# Altium footprint library Capacitors_rus.PCBLIB: 349 footprints (part 16 of 22)
Each footprint in its own frame and in the unit in brackets; x right, y up, seen from the top. Pads: shape width x height; smd on the part's side, far side on the other; paste and mask are expansions set on the pad; w line width, h text height; cw(c..) or ccw(c..) is an arc to the next point about the centre after c.
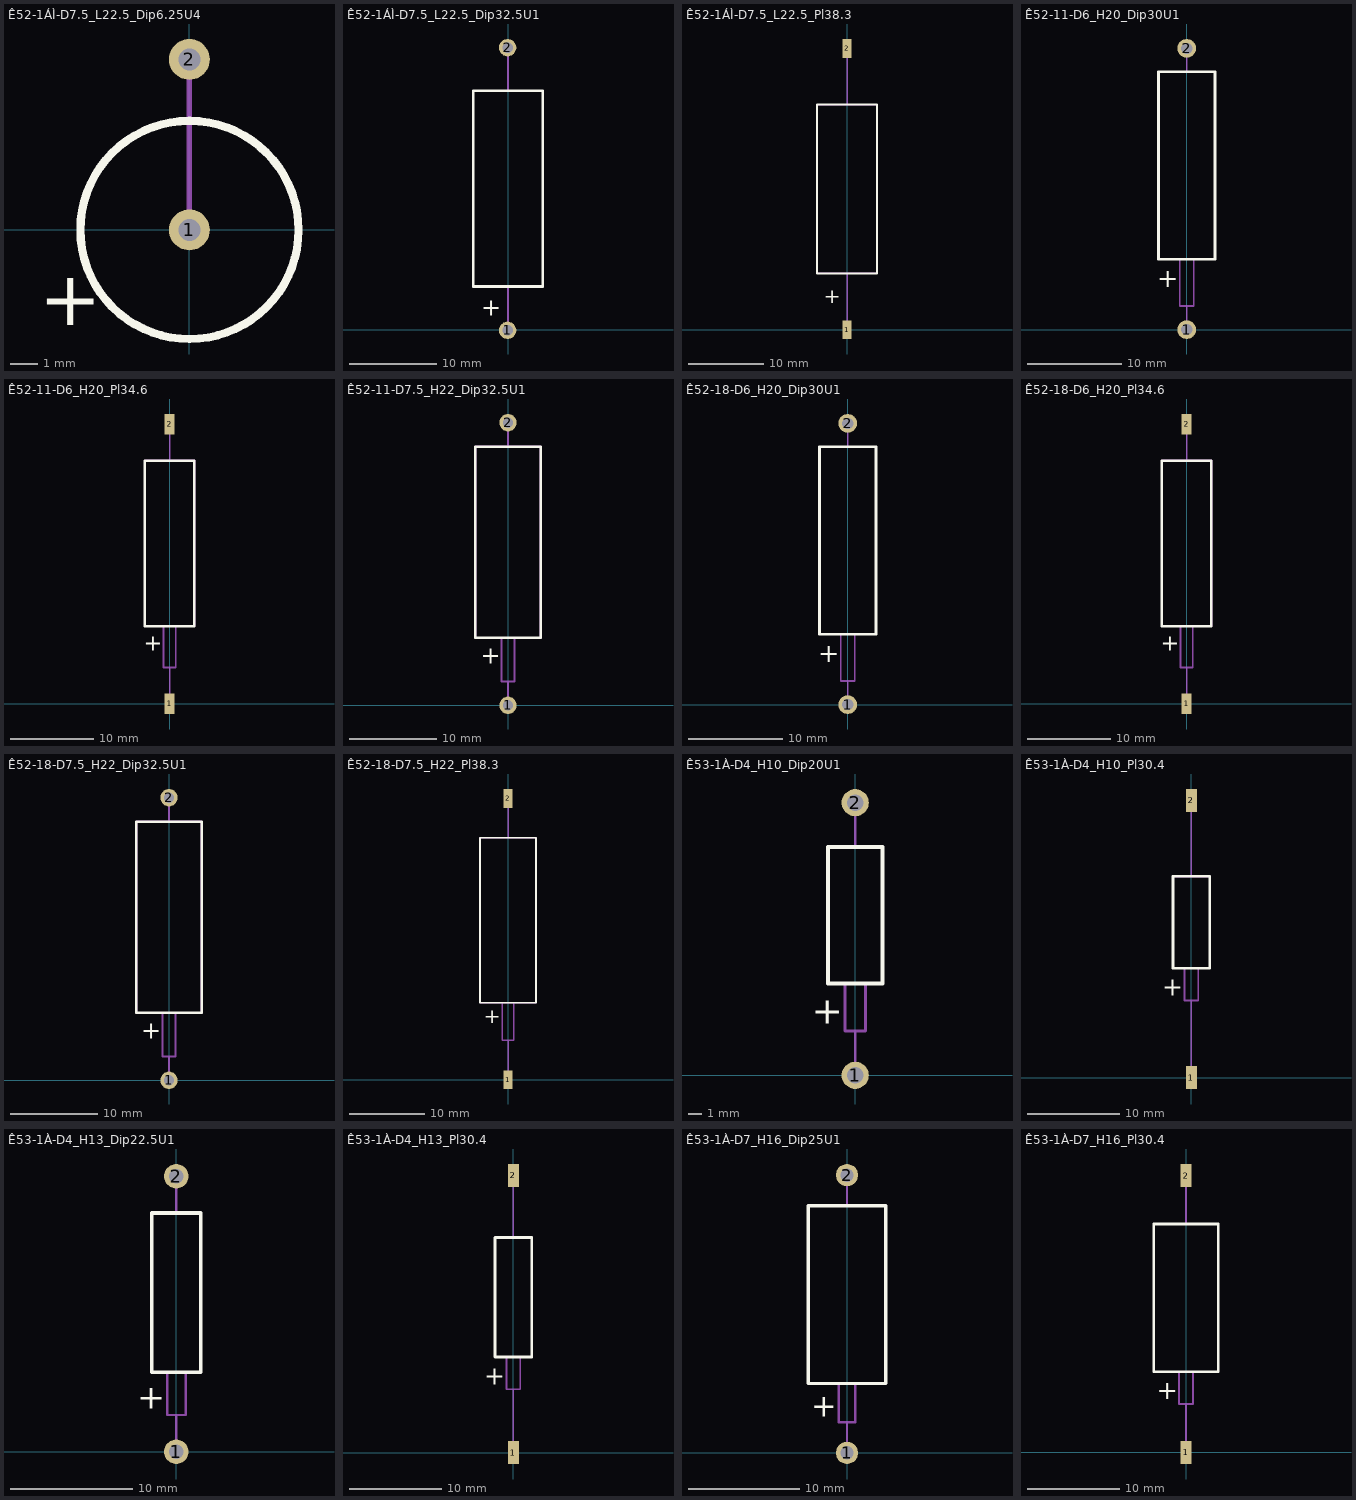
[diagram p15: the footprints below, top view; thin cyan lines are the x and y axes]

## Ê52-1ÁÌ-D7.5_L22.5_Dip6.25U4 [mm]
height 26
pads (2):
  round 1.5 hole 0.8: 1(0,0) 2(0,6.25)
Top Overlay:
  circle w0.3: c0,0 r4
  text "+" at -5.5,-3.5 h2
Mechanical 1:
  circle w0.2: c0,0 r4
  lines w0.2: 0,0 0,6.25
  text "+" at -0.25,-2.25 h1.5
  text ".Designator" at -4.75,-0.3 h1.5

## Ê52-1ÁÌ-D7.5_L22.5_Dip32.5U1 [mm]
height 8
pads (2):
  round 2 hole 1.2: 1(-0.04,-0.04) 2(-0.04,32.46)
Top Overlay:
  lines w0.3: -4,5 4,5 4,27.5 -4,27.5 -4,5
  text "+" at -3.08,1.645 h2
Mechanical 1:
  lines w0.2: -4,5 -4,27.5 4,27.5 4,5 -3.99,5 ; 0,0 0,5.03 ; 0,27.48 0,32.5
  text ".Designator" at 0.15,12.5 h1.5
  text "+" at -0.25,5.75 h1.5

## Ê52-1ÁÌ-D7.5_L22.5_Pl38.3 [mm]
height 8
pads (2):
  rect 1.2x2.5 smd: 1(0,0) 2(0,37.5)
Top Overlay:
  lines w0.3: -4,7.5 4,7.5 4,30 -4,30 -4,7.5
  text "+" at -3.08,3.52 h2
Mechanical 1:
  lines w0.2: -4,7.5 -4,30 4,30 4,7.5 -3.99,7.5 ; 0,-0.4 0,7.53 ; 0,29.98 0,37.9
  text "+" at -0.5,8.25 h1.5
  text ".Designator" at 0.15,15.65 h1.5

## Ê52-11-D6_H20_Dip30U1 [mm]
height 6
pads (2):
  round 2 hole 1.2: 1(0,0) 2(0,30)
Top Overlay:
  lines w0.3: -3,7.5 -3,27.5 3,27.5 3,7.5 -3,7.5
  text "+" at -3.156,4.5 h2
Mechanical 1:
  lines w0.2: -0.75,7.5 -0.75,2.5 0.75,2.5 0.75,7.5 ; 0,0 0,2.5 ; 0,27.5 0,30 ; -3,7.5 -3,27.5 3,27.5 3,7.5 -3,7.5
  text "+" at -0.25,8 h1.5
  text ".Designator" at 0.25,15.55 h1.5

## Ê52-11-D6_H20_Pl34.6 [mm]
height 6
pads (2):
  rect 1.2x2.5 smd: 1(0,0) 2(0,33.75)
Top Overlay:
  lines w0.3: -3,9.375 -3,29.375 3,29.375 3,9.375 -3,9.375
  text "+" at -3.156,6.375 h2
Mechanical 1:
  lines w0.2: -0.75,9.375 -0.75,4.375 0.75,4.375 0.75,9.375 ; 0,-0.425 0,4.375 ; 0,29.375 0,34.175 ; -3,9.375 -3,29.375 3,29.375 3,9.375 -3,9.375
  text "+" at -0.25,10.25 h1.5
  text ".Designator" at 0.3,17.5 h1.5

## Ê52-11-D7.5_H22_Dip32.5U1 [mm]
height 7.5
pads (2):
  round 2 hole 1.2: 1(0,0) 2(0,32.5)
Top Overlay:
  lines w0.3: -3.75,7.75 3.75,7.75 3.75,29.75 -3.75,29.75 -3.75,7.75
  text "+" at -3.156,4.75 h2
Mechanical 1:
  lines w0.2: -0.75,7.75 -0.75,2.75 0.75,2.75 0.75,7.75 ; 0,0 0,2.75 ; 0,29.75 0,32.5 ; -3.75,7.75 3.75,7.75 3.75,29.75 -3.75,29.75 -3.75,7.75
  text ".Designator" at 0.2,16.3 h1.5
  text "+" at -0.25,8.25 h1.5

## Ê52-18-D6_H20_Dip30U1 [mm]
height 6
pads (2):
  round 2 hole 1.2: 1(0,0) 2(0,30)
Top Overlay:
  lines w0.3: -3,7.5 -3,27.5 3,27.5 3,7.5 -3,7.5
  text "+" at -3.156,4.5 h2
Mechanical 1:
  lines w0.2: -0.75,7.5 -0.75,2.5 0.75,2.5 0.75,7.5 ; 0,0 0,2.5 ; 0,27.5 0,30 ; -3,7.5 -3,27.5 3,27.5 3,7.5 -3,7.5
  text "+" at -0.25,8 h1.5
  text ".Designator" at 0.25,15.55 h1.5

## Ê52-18-D6_H20_Pl34.6 [mm]
height 6
pads (2):
  rect 1.2x2.5 smd: 1(0,0) 2(0,33.75)
Top Overlay:
  lines w0.3: -3,9.375 3,9.375 3,29.375 -3,29.375 -3,9.375
  text "+" at -3.156,6.375 h2
Mechanical 1:
  lines w0.2: -0.75,9.375 -0.75,4.375 0.75,4.375 0.75,9.375 ; 0,-0.425 0,4.375 ; 0,29.375 0,34.175 ; -3,9.375 3,9.375 3,29.375 -3,29.375 -3,9.375
  text ".Designator" at 0.3,17.5 h1.5
  text "+" at -0.25,10.25 h1.5

## Ê52-18-D7.5_H22_Dip32.5U1 [mm]
height 7.5
pads (2):
  round 2 hole 1.2: 1(0,0) 2(0,32.5)
Top Overlay:
  lines w0.3: -3.75,7.75 3.75,7.75 3.75,29.75 -3.75,29.75 -3.75,7.75
  text "+" at -3.205,4.77 h2
Mechanical 1:
  lines w0.2: -0.75,7.75 -0.75,2.75 0.75,2.75 0.75,7.75 ; 0,0 0,2.75 ; 0,29.75 0,32.5 ; -3.75,7.75 3.75,7.75 3.75,29.75 -3.75,29.75 -3.75,7.75
  text ".Designator" at 0.3,16.85 h1.5
  text "+" at -0.25,8.25 h1.5
3D body: height 7.49, standoff -3, extent -3.75,-0.4 3.721,32.897

## Ê52-18-D7.5_H22_Pl38.3 [mm]
height 7.5
pads (2):
  rect 1.2x2.5 smd: 1(0,0) 2(0,37.5)
Top Overlay:
  lines w0.25: -3.75,10.25 3.75,10.25 3.75,32.25 -3.75,32.25 -3.75,10.25
  text "+" at -3.205,7.52 h2
Mechanical 1:
  lines w0.2: -0.75,10.25 -0.75,5.25 0.75,5.25 0.75,10.25 ; 0,-0.4 0,5.25 ; 0,32.25 0,37.9 ; -3.75,10.25 3.75,10.25 3.75,32.25 -3.75,32.25 -3.75,10.25
  text "+" at -0.25,11 h1.5
  text ".Designator" at 0.3,19.6 h1.5

## Ê53-1À-D4_H10_Dip20U1 [mm]
height 4.5
pads (2):
  round 2 hole 1.2: 1(0,0) 2(0,20)
Top Overlay:
  lines w0.3: -2,6.75 -2,16.75 2,16.75 2,6.75 -2,6.75
  text "+" at -3.205,3.77 h2
Mechanical 1:
  lines w0.2: -0.75,6.75 -0.75,3.25 0.75,3.25 0.75,6.75 ; 0,0 0,3.25 ; 0,16.75 0,20 ; -2,6.75 -2,16.75 2,16.75 2,6.75 -2,6.75
  text ".Designator" at 0.2,9.95 h1.5
  text "+" at -0.35,7.35 h1.5

## Ê53-1À-D4_H10_Pl30.4 [mm]
height 4.5
pads (2):
  rect 1.2x2.5 smd: 1(0,0) 2(0,30.125)
Top Overlay:
  lines w0.3: -2,11.875 2,11.875 2,21.875 -2,21.875 -2,11.875
  text "+" at -3.156,8.875 h2
Mechanical 1:
  lines w0.2: -0.75,11.875 -0.75,8.375 0.75,8.375 0.75,11.875 ; 0,-0.075 0,8.375 ; 0,21.875 0,30.325 ; -2,11.875 2,11.875 2,21.875 -2,21.875 -2,11.875
  text "+" at -0.35,12.5 h1.5
  text ".Designator" at 0.45,15 h1.5

## Ê53-1À-D4_H13_Dip22.5U1 [mm]
height 4.5
pads (2):
  round 2 hole 1.2: 1(0,0) 2(0,22.5)
Top Overlay:
  lines w0.3: -2,6.5 -2,19.5 2,19.5 2,6.5 -2,6.5
  text "+" at -3.205,3.52 h2
Mechanical 1:
  lines w0.2: -0.75,6.5 -0.75,3 0.75,3 0.75,6.5 ; 0,0 0,3 ; 0,19.5 0,22.5 ; -2,6.5 -2,19.5 2,19.5 2,6.5 -2,6.5
  text ".Designator" at 0.25,11.85 h1.5
  text "+" at -0.25,6.95 h1.5

## Ê53-1À-D4_H13_Pl30.4 [mm]
height 4.5
pads (2):
  rect 1.2x2.5 smd: 1(0,0) 2(0,30.125)
Top Overlay:
  lines w0.3: -2,10.375 -2,23.375 2,23.375 2,10.375 -2,10.375
  text "+" at -3.156,7.375 h2
Mechanical 1:
  lines w0.2: -0.75,10.375 -0.75,6.875 0.75,6.875 0.75,10.375 ; 0,-0.075 0,6.875 ; 0,23.375 0,30.325 ; -2,10.375 -2,23.375 2,23.375 2,10.375 -2,10.375
  text ".Designator" at 0.25,15.2 h1.5
  text "+" at -0.3,11.05 h1.5

## Ê53-1À-D7_H16_Dip25U1 [mm]
height 7.5
pads (2):
  round 2 hole 1.2: 1(0,0) 2(0,25)
Top Overlay:
  lines w0.3: -2,22.25 2,22.25 ; -3.5,6.25 -3.5,22.25 3.5,22.25 3.5,6.25 -3.5,6.25
  text "+" at -3.205,3.27 h2
Mechanical 1:
  lines w0.2: -2,22.25 2,22.25 ; -0.75,6.25 -0.75,2.75 0.75,2.75 0.75,6.25 ; 0,0 0,2.75 ; 0,22.25 0,25 ; -3.5,6.25 -3.5,22.25 3.5,22.25 3.5,6.25 -3.5,6.25
  text "+" at -0.3,6.85 h1.5
  text ".Designator" at 0.3,12.75 h1.5

## Ê53-1À-D7_H16_Pl30.4 [mm]
height 7.5
pads (2):
  rect 1.2x2.5 smd: 1(0,0) 2(0,30)
Top Overlay:
  lines w0.3: -3.5,8.75 -3.5,24.75 3.5,24.75 3.5,8.75 -3.5,8.75
  text "+" at -3.156,5.75 h2
Mechanical 1:
  lines w0.2: -0.75,8.75 -0.75,5.25 0.75,5.25 0.75,8.75 ; 0,-0.2 0,5.25 ; 0,24.75 0,30.2 ; -3.5,8.75 -3.5,24.75 3.5,24.75 3.5,8.75 -3.5,8.75
  text ".Designator" at 0.3,15.7 h1.5
  text "+" at -0.5,9.6 h1.5